# EAGLE library part 0855135013 (library molex-connector)
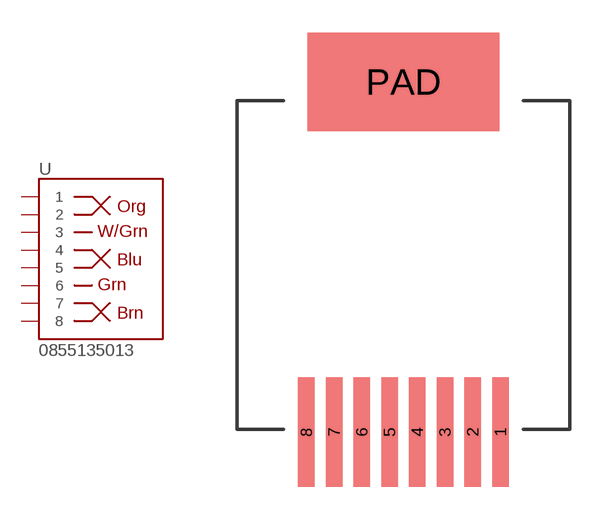
[diagram p0: symbol with the pads of 0855135013; footprint 0855135013]

Designator prefix -

## 0855135013  [0855135013]
1  1
2  2
3  3
4  4
5  5
6  6
7  7
8  8

## Footprint 0855135013 (pad centres in mm)
smd 0.76 x 5: 1 4.445,-7.66; 2 3.175,-7.66; 3 1.905,-7.66; 4 0.635,-7.66; 5 -0.635,-7.66; 6 -1.905,-7.66; 7 -3.175,-7.66; 8 -4.445,-7.66
smd 8.8 x 4.5: PAD 0,8.39